# Altium footprint library MyLibOLD.pcblib: 112 footprints (part 4 of 7)
Each footprint in its own frame and in the unit in brackets; x right, y up, seen from the top. Pads: shape width x height; smd on the part's side, far side on the other; paste and mask are expansions set on the pad; w line width, h text height; cw(c..) or ccw(c..) is an arc to the next point about the centre after c.
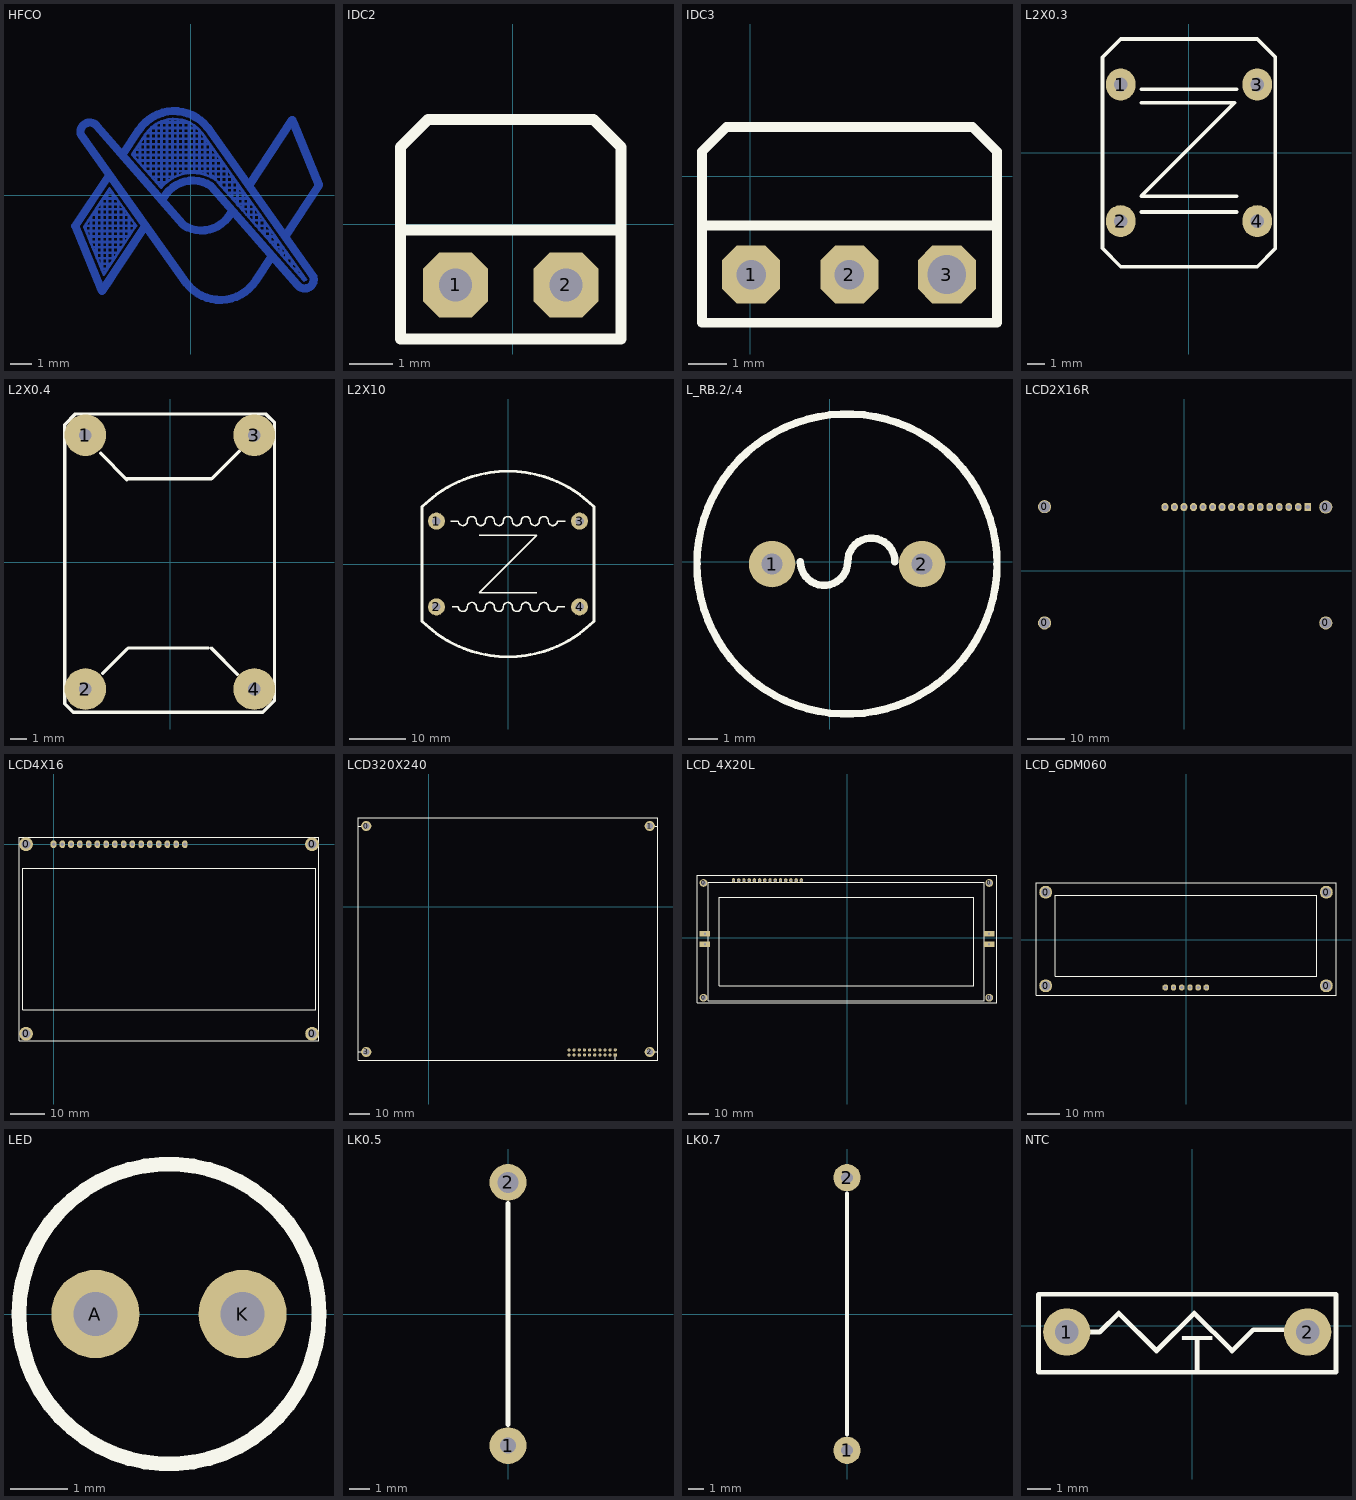
[diagram p3: the footprints below, top view; thin cyan lines are the x and y axes]

## HFCO [mil]
BottomLayer:
  lines w5: -195.32,-56.15 -101.44,-56.15 ; -194.06,-64.81 -194.06,-54.26 ; -193.52,-66.15 -107.9,-66.15 ; -189.43,-76.15 -114.51,-76.15 ; -188.67,-46.15 -108.54,-46.15 ; -185.34,-86.15 -121.12,-86.15 ; -184.06,-89.28 -184.06,-39.22 ; -182.02,-36.15 -115.64,-36.15 ; -181.26,-96.15 -127.73,-96.15 ; -177.17,-106.15 -134.34,-106.15 ; -175.37,-26.15 -122.74,-26.15 ; -174.06,-113.75 -174.06,-24.18 ; -173.08,-116.15 -140.95,-116.15 ; -169,-126.15 -147.56,-126.15 ; -168.72,-16.15 -129.84,-16.15 ; -164.91,-136.15 -154.17,-136.15 ; -164.06,-138.22 -164.06,-9.14 ; -162.08,-6.15 -136.94,-6.15 ; -155.43,3.85 -144.04,3.85 ; -154.06,-135.99 -154.06,5.9 ; -144.06,-120.86 -144.06,3.89 ; -134.06,-105.73 -134.06,-10.2 ; -124.06,-90.61 -124.06,-24.29 ; -114.06,-75.48 -114.06,-38.37 ; -107.4,73.85 49,73.85 ; -104.06,-60.35 -104.06,-52.46 ; -104.06,70.04 -104.06,81.55 ; -102.54,83.85 41.9,83.85 ; -98.65,63.85 56.1,63.85 ; -95.91,93.85 34.8,93.85 ; -94.06,58.62 -94.06,96.63 ; -89.89,53.85 63.2,53.85 ; -89.28,103.85 27.71,103.85 ; -84.52,111.02 -108.41,75 -55.26,14.29 -50.29,21.92 ; -84.27,111.4 cw(c-31.06,76.85) 19.6,115.03 ; -84.06,47.19 -84.06,111.71 ; -82.59,113.85 20.59,113.85 ; -81.14,43.85 70.3,43.85 ; -74.06,35.77 -74.06,123.49 ; -73.67,123.85 11.54,123.85 ; -72.39,33.85 -29.25,33.85 ; -64.06,24.34 -64.06,131.03 ; -63.63,23.85 -44.92,23.85 ; -58.91,133.85 -3.22,133.85 ; -54.71,14.14 cw(c3.44,-34.65) -48.33,20.86 cw(c3.44,-34.65) 36.71,33.57 cw(c3.44,-34.65) 44.77,29.01 ; -54.06,16.13 -54.06,135.97 ; -44.06,24.55 -44.06,138.94 ; -34.06,31.34 -34.06,140.22 ; -24.06,36.09 -24.06,139.9 ; -14.06,39.21 -14.06,137.97 ; -4.06,40.88 -4.06,134.25 ; 5.94,41.21 5.94,128.38 ; 15.94,40.21 15.94,119.45 ; 20.67,113.76 89.17,17.26 95.93,7.74 ; 25.94,37.84 25.94,106.34 ; 35.94,33.94 35.94,92.26 ; 39.3,35.81 46.12,28.02 ; 41.01,33.85 77.4,33.85 ; 45.94,28.23 45.94,78.17 ; 49.18,24.52 87.31,-19.05 ; 49.77,23.85 84.5,23.85 ; 55.94,16.8 55.94,64.08 ; 58.52,13.85 86.93,13.85 ; 65.94,5.38 65.94,49.99 ; 67.27,3.85 98.69,3.85 ; 75.94,-6.05 75.94,35.91 ; 76.03,-6.15 105.79,-6.15 ; 84.78,-16.15 112.89,-16.15 ; 85.94,-17.47 85.94,21.82 ; 86.85,13.73 95.93,7.74 ; 95.94,-25.01 95.94,7.73 ; 96.15,-26.15 119.99,-26.15 ; 96.61,-25.48 87.31,-19.05 ; 102.29,-36.15 127.09,-36.15 ; 105.94,-40.32 105.94,-6.36 ; 111.04,-46.15 134.19,-46.15 ; 115.94,-51.74 115.94,-20.44 ; 119.79,-56.15 141.28,-56.15 ; 125.94,-63.17 125.94,-34.53 ; 128.55,-66.15 148.38,-66.15 ; 135.94,-74.59 135.94,-48.62 ; 137.3,-76.15 155.48,-76.15 ; 145.94,-86.02 145.94,-62.7 ; 146.05,-86.15 162.58,-86.15 ; 153.84,-79.22 161.06,-84.01 ; 154.81,-96.15 169.68,-96.15 ; 155.94,-97.44 155.94,-80.61 ; 165.94,-105.69 165.94,-90.88 ; 166.63,-106.15 176.78,-106.15 ; 169.53,-108.08 159.32,-101.31 ; 172.31,-116.15 183.87,-116.15 ; 175.94,-120.29 175.94,-104.97 ; 181.07,-126.15 190.97,-126.15 ; 185.94,-131.71 185.94,-119.05 ; 189.82,-136.15 198.07,-136.15 ; 195.94,-143.13 195.94,-133.14 ; 198.57,-146.15 205.17,-146.15 ; 205.94,-154.56 205.94,-147.23 ; 208.34,-157.31 167.69,-110.86 159.32,-101.31 ; 211.83,-155.53 161.06,-84.01 ; 87.31,-19.05 94.99,-27.82 159.32,-101.31 ; 95.93,7.74 155.68,-76.44 161.06,-84.01 ; -196.73,-58.28 -149.92,12.14 -101.36,-56.27 -160.81,-146.19 -196.73,-58.28
  lines w15: -173.06,126.85 -15.06,-53.65 ; -172.7,126.55 ccw(c-186.56,116.85) -202.56,111.34 -8.06,-162.65 ; -164.06,-176.65 -166.06,-171.65 -213.06,-56.65 -151.56,35.85 -151.06,36.35 ; -148.06,-154.15 -163.56,-176.65 -84.56,-57.15 ; -126.56,73.85 -96.06,119.85 ; -96.43,119.3 cw(c-31.06,76.85) 31.18,123.75 ; -53.56,-9.65 -46.06,1.85 ; -45.6,2.3 cw(c3.44,-34.65) 36.88,16.84 ; -14,-55.14 ccw(c19.44,-3.65) 68.47,-40.6 ; -8.31,-162.05 ccw(c53.94,-115.15) 119.3,-157.6 ; 30.94,124.35 225.44,-149.65 cw(c209.44,-155.15) 195.58,-164.85 ; 37.94,15.35 195.94,-165.15 ; 67.44,-42.15 76.44,-29.15 ; 106.94,17.85 186.44,138.35 170.94,115.85 ; 118.94,-158.15 149.44,-112.15 ; 173.94,-75.15 235.94,18.35 188.94,133.35 186.94,138.35
  text "HF. CO." at 233.72,-317.08 h100
TopOverlay:

## IDC2 [mil]
pads (2):
  oct 59.05x59.05 hole 30: 1(-52,-55) 2(48,-55)
TopOverlay:
  lines w10: -102,-104 98,-104 98,70 73,95 -77,95 -102,70 -102,-103 ; -102,-5 96,-5

## IDC3 [mm]
pads (3):
  oct 1.5x1.5 hole 0.762: 1(0.025,-2.54) 2(2.565,-2.54)
  oct 1.5x1.5 hole 1: 3(5.08,-2.54)
TopOverlay:
  lines w0.254: -1.245,-3.785 6.375,-3.785 6.375,0.635 5.74,1.27 -0.61,1.27 -1.245,0.635 -1.245,-3.759 ; -1.245,-1.27 6.325,-1.27

## L2X0.3 [mil]
pads (4):
  oval 65x70 hole 30: 1(-150,150) 2(-150,-150) 3(150,150) 4(150,-150)
TopOverlay:
  lines w7.87: -105,-130 105,-130 ; -105,110 100,110 -105,-95 105,-95 ; -105,140 105,140 ; -190,-210 -190,210 -150,250 150,250 190,210 190,-210 150,-250 -150,-250 -190,-210

## L2X0.4 [mm]
pads (4):
  round 2.5 hole 0.762: 1(-5.08,7.62) 2(-5.08,-7.62) 3(5.055,7.62) 4(5.055,-7.62)
TopOverlay:
  lines w0.203: -6.325,-7.645 -6.325,-8.153 -6.325,-8.509 -5.817,-9.017 5.563,-9.017 6.274,-8.306 6.274,-7.62 6.274,8.357 5.74,8.89 -5.69,8.89 -6.325,8.255 -6.325,-7.62 ; -4.166,6.528 -2.591,4.953 ; -4.039,-6.68 -2.591,-5.232 ; -2.565,5.004 2.489,5.004 ; -2.515,-5.156 2.311,-5.156 ; 2.464,-5.156 4.039,-6.731 ; 2.54,5.029 4.166,6.655

## L2X10 [mm]
pads (4):
  round 3 hole 1.5: 1(-12.7,7.62) 2(-12.7,-7.62) 3(12.7,7.62) 4(12.7,-7.62)
TopOverlay:
  lines w0.254: -10.16,7.62 -8.81,7.62 ccw(c-8.01,7.62) -7.21,7.62 cw(c-6.41,7.62) -5.61,7.62 ; -9.906,-7.62 -8.81,-7.62 ccw(c-8.01,-7.62) -7.21,-7.62 cw(c-6.41,-7.62) -5.61,-7.62 ; -5.619,-7.62 ccw(c-4.819,-7.62) -4.019,-7.62 cw(c-3.219,-7.62) -2.419,-7.62 ccw(c-1.619,-7.62) -0.819,-7.62 cw(c-0.019,-7.62) 0.781,-7.62 ; -5.619,7.62 ccw(c-4.819,7.62) -4.019,7.62 cw(c-3.219,7.62) -2.419,7.62 ccw(c-1.619,7.62) -0.819,7.62 cw(c-0.019,7.62) 0.781,7.62 ; -5.08,5.08 5.08,5.08 -5.08,-5.08 5.08,-5.08 ; 0.772,-7.62 ccw(c1.572,-7.62) 2.372,-7.62 cw(c3.172,-7.62) 3.972,-7.62 ccw(c4.772,-7.62) 5.572,-7.62 cw(c6.372,-7.62) 7.172,-7.62 ; 0.772,7.62 ccw(c1.572,7.62) 2.372,7.62 cw(c3.172,7.62) 3.972,7.62 ccw(c4.772,7.62) 5.572,7.62 cw(c6.372,7.62) 7.172,7.62 ; 7.163,-7.62 ccw(c7.963,-7.62) 8.763,-7.62 10.033,-7.62 ; 7.163,7.62 ccw(c7.963,7.62) 8.763,7.62 10.16,7.62
  lines w0.508: -15.24,-10.16 ccw(c0,5.08) 15.24,-10.16 15.24,10.16 ccw(c0,-5.08) -15.24,10.16 -15.24,-10.16

## L_RB.2/.4 [mil]
pads (2):
  round 62 hole 28: 1(-77.31,-3) 2(122.69,-3)
TopOverlay:
  circle w10: c22.69,-3 r200
  lines w10: -39.37,0 ccw(c-7.87,0) 23.62,0 cw(c55.12,0) 86.61,0

## LCD2X16R [mm]
pads (20):
  round 3.5 hole 3: 0(-37.23,-13.863) 0(-37.23,17.137) 0(37.77,-13.863) 0(37.77,17.037)
  rect 1.8x2.2 hole 1.1: 1(32.966,17.04)
  oval 1.8x2.2 hole 1.1: 2(30.426,17.04) 3(27.886,17.04) 4(25.346,17.04) 5(22.806,17.04) 6(20.266,17.04) 7(17.726,17.04) 8(15.186,17.04) 9(12.646,17.04) 10(10.106,17.04) 11(7.566,17.04) 12(5.026,17.04) 13(2.486,17.04) 14(-0.054,17.04) 15(-2.594,17.04) 16(-5.134,17.04)
BottomOverlay:
  lines w0.254: 31.696,15.77 31.696,18.31 ; -39.513,-16.148 40.487,-16.148 40.487,19.852 -39.513,19.852 -39.513,-16.148 ; -6.404,15.77 34.236,15.77 34.236,18.31 -6.404,18.31 -6.404,15.77

## LCD4X16 [mil]
pads (20):
  round 157.48 hole 98.42: 0(-315,-2165) 0(-315,0) 0(2952,0) 0(2953,-2165)
  oct 65x85 hole 39.37: 1(0,0) 2(100,0) 3(200,0) 4(300,0) 5(400,0) 6(500,0) 7(600,0) 8(700,0) 9(800,0) 10(900,0) 11(1000,0) 12(1100,0) 13(1200,0) 14(1300,0) 15(1400,0) 16(1500,0)
TopOverlay:
  lines w5: -354,-1890 2992,-1890 2992,-276 -354,-276 -354,-1890
  lines w10: -395,-2244 -395,79 -375,79 3031,79 3031,-2244 -395,-2244

## LCD320X240 [mil]
pads (24):
  round 196.85 hole 118.11: 0(-1219,1572) 1(4291,1572) 2(4291,-2818) 3(-1219,-2818)
  rect 62x62 hole 28: 1(3621,-2878)
  round 62 hole 28: 2(3621,-2778) 3(3521,-2878) 4(3521,-2778) 5(3421,-2878) 6(3421,-2778) 7(3321,-2878) 8(3321,-2778) 9(3221,-2878) 10(3221,-2778) 11(3121,-2878) 12(3121,-2778) 13(3021,-2878) 14(3021,-2778) 15(2921,-2878) 16(2921,-2778) 17(2821,-2878) 18(2821,-2778) 19(2721,-2878) 20(2721,-2778)
TopOverlay:
  lines w10: 3621,-2978 3621,-2878 ; -1379,-2978 4451,-2978 4451,1732 -1379,1732 -1379,-2978
  lines w20: -1379,-2978 -1379,-2818 -1219,-2818 ; -1379,1732 -1379,1572 -1219,1572 ; 4291,-2818 4451,-2818 4451,-2978 ; 4291,1572 4451,1572 4451,1732
BottomOverlay:
  lines w12: 3571,-2928 3571,-2828 3671,-2828 ; 2671,-2928 2671,-2728 3671,-2728 3671,-2928 2671,-2928
KeepOutLayer:
  lines w10: 3621,-2978 4451,-2978

## LCD_4X20L [mil]
pads (22):
  round 150 hole 100: 0(-2750,-1150) 0(-2750,1050) 0(2725,-1150) 0(2725,1050)
  oval 65x80 hole 40: 1(-2175,1100) 2(-2075,1100) 3(-1975,1100) 4(-1875,1100) 5(-1775,1100) 6(-1675,1100) 7(-1575,1100) 8(-1475,1100) 9(-1375,1100) 10(-1275,1100) 11(-1175,1100) 12(-1075,1100) 13(-975,1100) 14(-875,1100)
  rect 200x100 hole 40: 15(-2725,75) 16(-2725,-125) 17(2725,75) 18(2725,-125)
TopOverlay:
  lines w7.87: 2632,775 2632,1061 ; 2632,1061 -2657,1061 -2657,-1211 2632,-1211 2632,1061 ; -2875,-1250 -2875,1200 2875,1200 2875,-1250 -2875,-1250 ; -2450,-925 -2450,775 2425,775 2425,-925 -2450,-925

## LCD_GDM060 [mm]
pads (10):
  round 4 hole 3: 0(-43.5,-14.235) 0(-43.5,14.765) 0(43.5,-14.235) 0(43.5,14.765)
  oct 1.651x1.905 hole 1.016: 1(-6.39,-14.764) 2(-3.85,-14.764) 3(-1.31,-14.764) 4(1.23,-14.764) 5(3.77,-14.764) 6(6.31,-14.764)
TopOverlay:
  lines w0.254: -46.5,-17.236 -46.5,17.765 46.5,17.765 46.5,-17.236 -46.5,-17.236 ; -40.5,-11.235 40.5,-11.235 40.5,13.765 -40.5,13.765 -40.5,-11.235

## LED [mil]
pads (2):
  round 60 hole 30: A(650,0) K(750,0)
TopOverlay:
  circle w10: c700,0 r101.98

## LK0.5 [mil]
pads (2):
  round 70 hole 30: 1(0,-250)
  round 70 hole 40: 2(0,250)
TopOverlay:
  lines w10: 0,-210 0,210

## LK0.7 [mil]
pads (2):
  round 70 hole 30: 1(0,-350) 2(0,350)
TopOverlay:
  lines w10: 0,-310 0,310

## NTC [mm]
pads (2):
  round 2 hole 1: 1(-5.309,-0.257) 2(4.891,-0.257)
TopOverlay:
  lines w0.203: -4.509,-0.257 -3.909,-0.257 -3.109,0.543 -1.509,-1.057 0.091,0.543 1.691,-1.057 2.591,-0.157 4.691,-0.157 ; -6.509,-1.957 -6.509,1.343 6.091,1.343 6.091,-1.957 -6.509,-1.957
  text "T" at -0.409,-1.957 h1.52